# Altium footprint library Case PQ 40_40.PcbLib: 1 footprints
Each footprint in its own frame and in the unit in brackets; x right, y up, seen from the top. Pads: shape width x height; smd on the part's side, far side on the other; paste and mask are expansions set on the pad; w line width, h text height; cw(c..) or ccw(c..) is an arc to the next point about the centre after c.
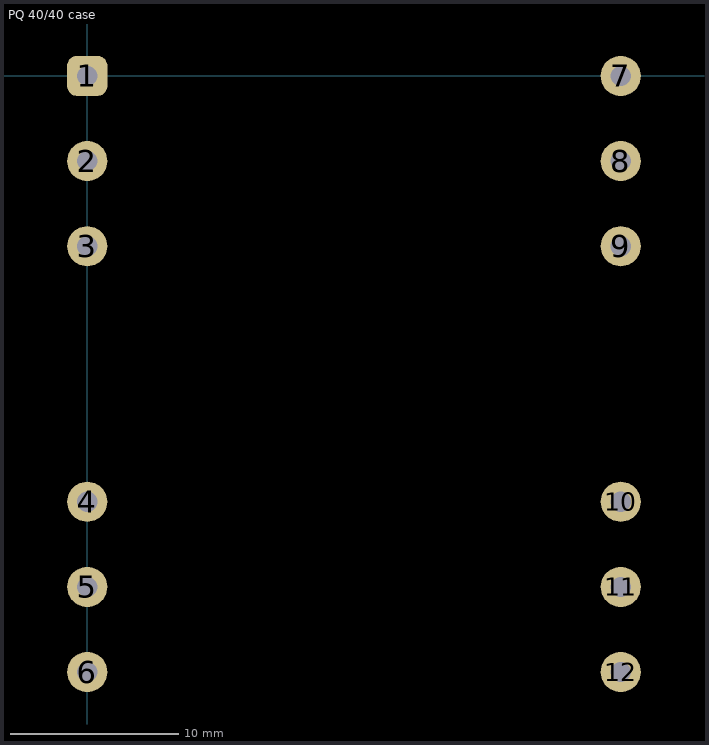
[diagram p0: the footprint, top view; thin cyan lines are the x and y axes]

## PQ 40/40 case [mm]
pads (12):
  rrect50% 2.4x2.4 hole 1.2: 1(0,0)
  round 2.4 hole 1.2: 2(0,-5.075) 3(0,-10.15) 4(0,-25.38) 5(0,-30.455) 6(0,-35.53) 7(31.8,0) 8(31.8,-5.075) 9(31.8,-10.15) 10(31.8,-25.38) 11(31.8,-30.455) 12(31.8,-35.53)